# EAGLE library part ENC28J60-H (library modEEG)
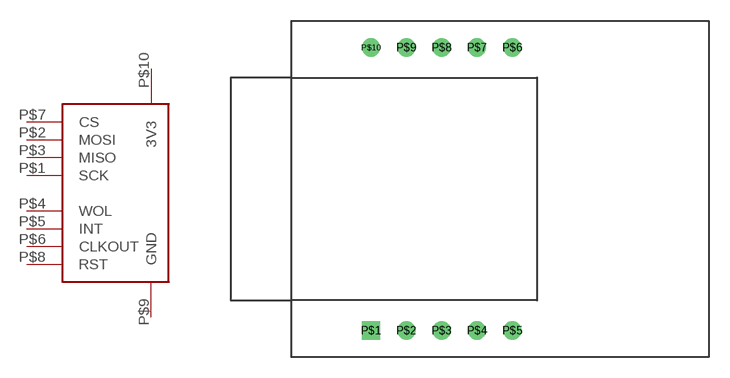
[diagram p0: symbol with the pads of ENC28J60-H; footprint ENC28J60-H]

Designator prefix -

## ENC28J60-H  [ENC28J60-H]
P$1  SCK
P$2  MOSI
P$3  MISO
P$4  WOL
P$5  INT
P$6  CLKOUT
P$7  CS
P$8  RST
P$9  GND
P$10  3V3

## Footprint ENC28J60-H (pad centres in mm)
drill 0.8 square: P$1 5.715,1.905
drill 0.8: P$2 8.255,1.905; P$3 10.795,1.905; P$4 13.335,1.905; P$5 15.875,1.905; P$6 15.875,22.225; P$7 13.335,22.225; P$8 10.795,22.225; P$9 8.255,22.225; P$10 5.715,22.225